# EAGLE library part 72454-010VLF (library SamacSys_Parts)
Quickie Slimline Header, Wire to Board connector, Surface Mount, Double Row, 10 Positions, 2.54 mm (0.1 in.), Vertical Header 0.76 um (30 u".) Gold Mating Plating. Source: Datasheet <https://cdn.amphenol-cs.com/media/wysiwyg/files/drawing/72454.pdf>
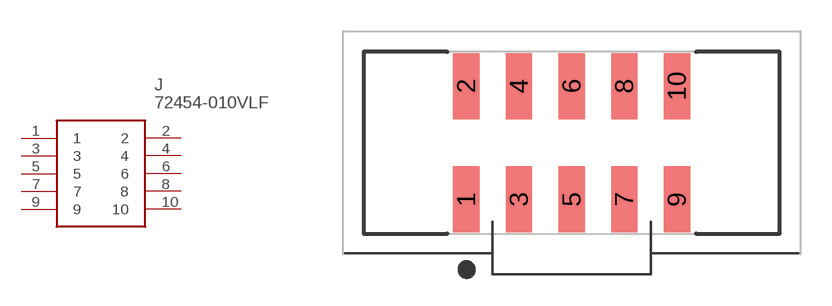
[diagram p110: symbol with the pads of 72454010VLF; footprint 72454010VLF]

Designator prefix J

## 72454-010VLF (DESCRIPTION: Quickie Slimline Header, Wire to Board connector, Surface Mount, Double Row, 10 Positions, 2.54 mm (0.1 in.), Vertical Header 0.76 um (30 u".) Gold Mating Plating.; HEIGHT: 12.78mm; MANUFACTURER_NAME: Amphenol Communications Solutions; MANUFACTURER_PART_NUMBER: 72454-010VLF; MOUSER_PART_NUMBER: 649-72454-010VLF; MOUSER_PRICE-STOCK: https://www.mouser.co.uk/ProductDetail/Amphenol-FCI/72454-010VLF?qs=yJYkLTYh574QEF9%252BDEmzOw%3D%3D)  [72454010VLF]
1  1
2  2
3  3
4  4
5  5
6  6
7  7
8  8
9  9
10  10

## Footprint 72454010VLF (pad centres in mm)
72454-010VLF-1
smd 1.27 x 3.18: 1 -5.08,-2.73; 2 -5.08,2.73; 3 -2.54,-2.73; 4 -2.54,2.73; 5 0,-2.73; 6 0,2.73; 7 2.54,-2.73; 8 2.54,2.73; 9 5.08,-2.73; 10 5.08,2.73